# Altium footprint library Lib Marius.PcbLib: 393 footprints (part 23 of 25)
Each footprint in its own frame and in the unit in brackets; x right, y up, seen from the top. Pads: shape width x height; smd on the part's side, far side on the other; paste and mask are expansions set on the pad; w line width, h text height; cw(c..) or ccw(c..) is an arc to the next point about the centre after c.
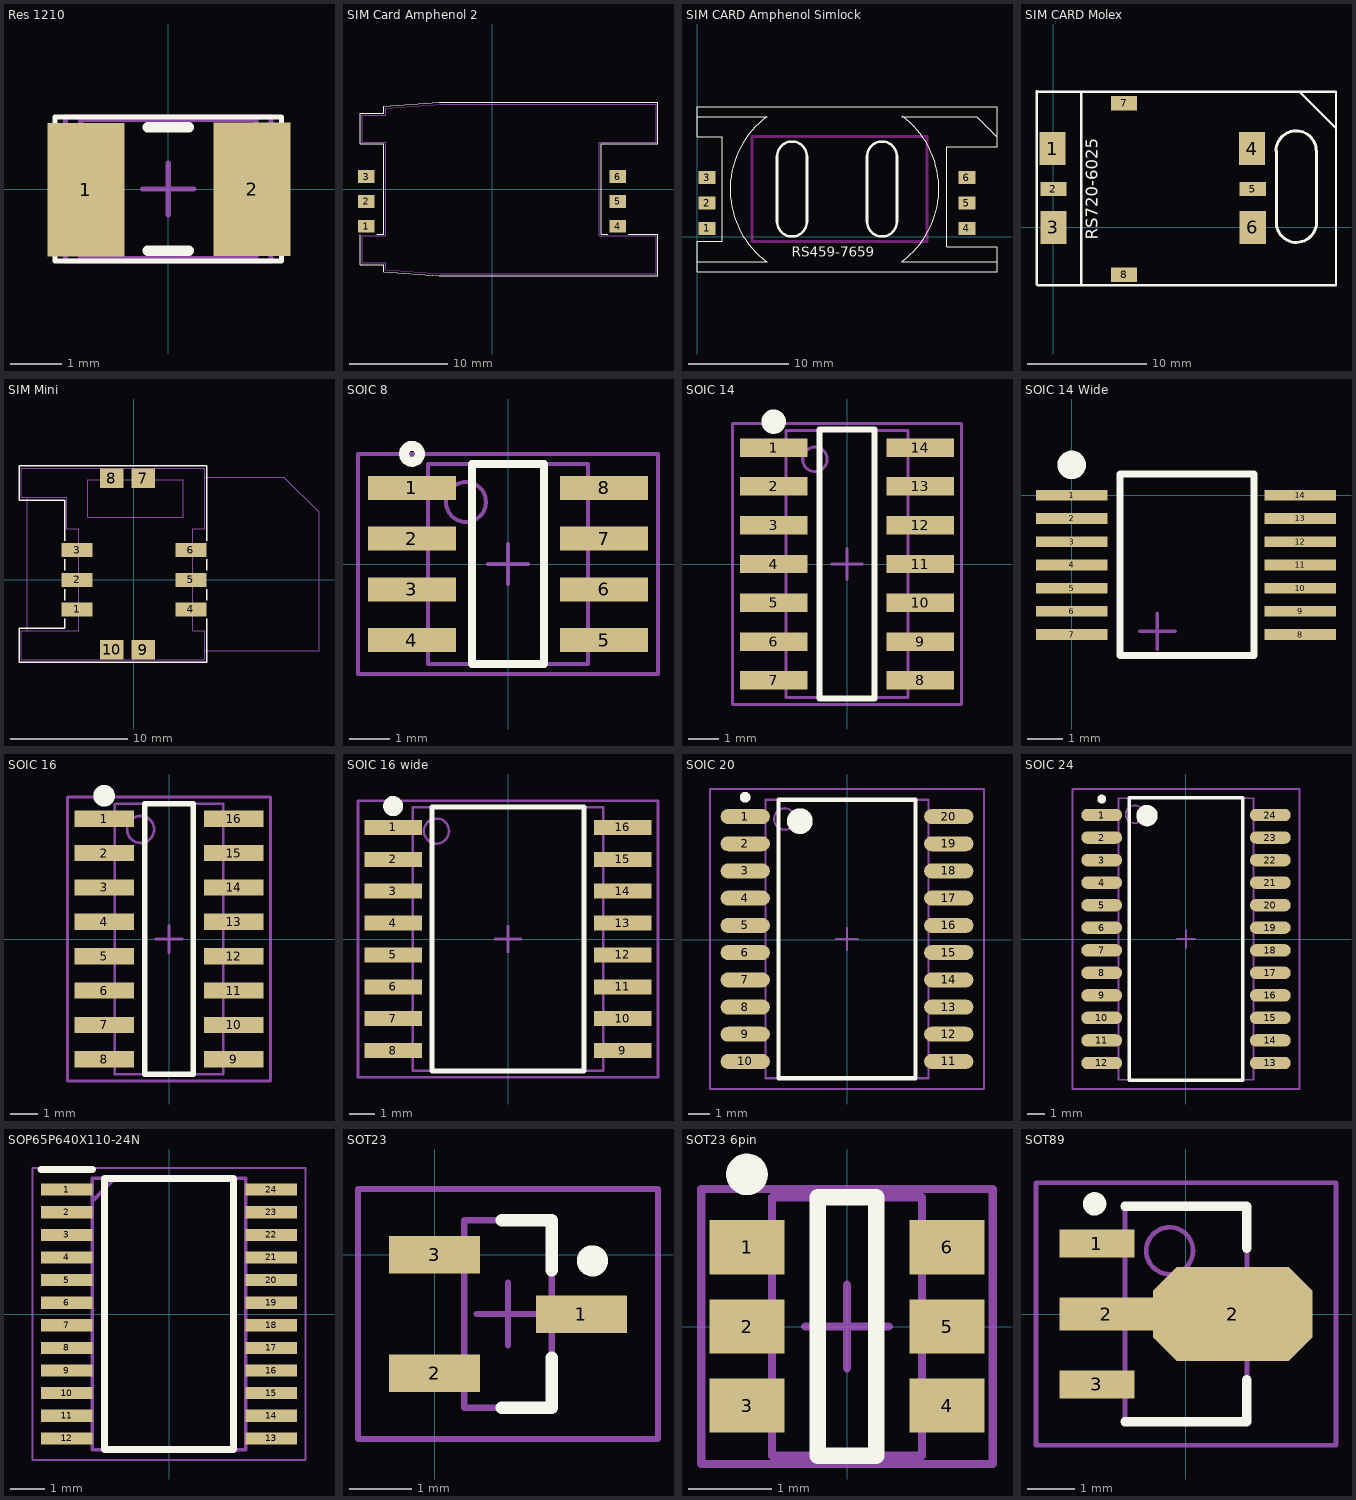
[diagram p22: the footprints below, top view; thin cyan lines are the x and y axes]

## Res 1210 [mm] "1210 Resistor 0.25W"
height 0.5
pads (2):
  rect 1.5x2.6 smd: 1(-1.601,-0.013) 2(1.63,-0.003)
Top Overlay:
  lines w0.1: -2.2,-1.4 2.2,-1.4 2.2,1.4 -2.2,1.4 -2.2,-1.4
  lines w0.2: -0.4,-1.2 0.4,-1.2 ; -0.4,1.2 0.4,1.2
Mechanical 13:
  lines w0.1: -1.7,-1.35 -1.7,1.35 1.7,1.35 1.7,-1.35 -1.7,-1.35
Mechanical 15:
  lines w0.1: -0.5,0 0.5,0 ; 0,-0.5 0,0.5 ; -2,-1.4 -2,1.4 2,1.4 2,-1.4 -2,-1.4
3D body "Res 1210.STEP": height 1.7, standoff 0, extent -2,-1.244 2,1.245

## SIM Card Amphenol 2 [mm]
pads (6):
  rect 1.7x1.3 smd mask+0: 1(-12.85,-3.81) 2(-12.85,-1.27) 3(-12.85,1.27) 4(12.85,-3.81) 5(12.85,-1.27) 6(12.85,1.27)
Top Overlay:
  lines w0.125: -13.45,-4.675 -13.45,-7.75 -11.05,-7.75 ; -11.8,-4.6 -11.05,-4.6 -11.05,4.6 -13.45,4.6 -13.45,7.75 -11.05,7.75 ; -5.4,-8.85 16.95,-8.85 16.95,-4.6 13.9,-4.6 ; -5.375,8.85 16.95,8.85 16.95,4.6 11.15,4.6 11.15,-4.6 11.8,-4.6
  lines w0.127: -11.05,-7.75 -11.05,-8.45 -5.4,-8.85 ; -11.05,7.75 -11.05,8.475 -5.375,8.85
Mechanical 13:
  lines w0.065: -13.25,-7.55 -13.25,-4.8 -10.85,-4.8 -10.85,4.8 -13.25,4.8 -13.25,7.55 -10.85,7.55 -10.85,8.25 -5.25,8.65 16.75,8.65 16.75,4.8 10.95,4.8 10.95,-4.8 16.75,-4.8 16.75,-8.65 -5.25,-8.65 -10.85,-8.25 -10.85,-7.55 -13.25,-7.55
  text ".Designator" at -4.35,-0.425 h0.87
3D body "c70710m0065002.stp": height 2.68, standoff 0, extent -13.25,-8.625 16.75,8.675

## SIM CARD Amphenol Simlock [mm] "SIM Card Connector with lock"
height 1.75
pads (6):
  rect 1.7x1.3 smd: 1(1,0.8) 2(1,3.34) 3(1,5.88) 4(27,0.8) 5(27,3.34) 6(27,5.88)
Top Overlay:
  lines w0.1: 0,-2.5 7,-2.5 ; 0,12 7,12 ccw(c12.359,4.715) 6.966,-2.545 ; 20.5,-2.5 30,-2.5 ; 20.5,-2.5 ccw(c15.141,4.785) 20.534,12.045 ; 20.5,12 28,12 30,10 ; 30,10 30,10 ; 0,-3.5 30,-3.5 30,-1 25,-1 25,9 30,9 30,13 0,13 0,10 2.5,10 2.5,-0.5 0,-0.5 0,-3.5
  lines w0.254: 8,1.5 ccw(c9.5,1.5) 11,1.5 11,8 ccw(c9.5,8) 8,8 8,1.5 ; 17,1.5 ccw(c18.5,1.5) 20,1.5 20,8 ccw(c18.5,8) 17,8 17,1.5
  text "RS459-7659" at 9.5,-2 h1
Keep-Out Layer:
  lines w0.254: 5.5,-0.5 23,-0.5 23,10 5.5,10 5.5,8 5.5,-0.5
3D body: height 2, standoff 0, extent 0,-3.5 30,13

## SIM CARD Molex [mm] "SIM Card Connector"
height 1.75
pads (8):
  rect 2.2x2.8 smd: 1(-0.06,6.648) 3(0,0) 4(16.74,6.648) 6(16.8,0)
  rect 2.2x1.2 smd: 2(0,3.24) 5(16.8,3.24) 7(5.96,10.46) 8(5.96,-3.98)
Top Overlay:
  lines w0.2: 2.352,-4.815 2.352,11.389 ; 19.958,11.414 20.477,11.414 20.763,11.414 23.775,8.402 ; -1.411,-4.784 -1.411,11.47 -1.369,11.427 23.811,11.427 23.811,-4.868 -1.327,-4.868 -1.411,-4.784
  lines w0.254: 18.762,6.455 cw(c20.451,6.455) 22.139,6.506 ; 18.789,6.428 18.789,0.379 ccw(c20.477,0.43) 22.166,0.43 22.166,6.479
  text "RS720-6025" at 3.754,-1.05 h1

## SIM Mini [mm] "Small SIM connector without locking"
pads (10):
  rect 2.65x1.2 smd mask+0: 1(-4.875,-2.54) 2(-4.875,0) 3(-4.875,2.54) 4(4.875,-2.54) 5(4.875,0) 6(4.875,2.54)
  rect 2x1.7 smd mask+0: 7(0.8,8.7) 8(-1.9,8.7) 9(0.8,-6) 10(-1.9,-6)
Top Overlay:
  lines w0.125: -5.95,-4.15 -9.85,-4.15 -9.85,-7.05 6.25,-7.05 ; -5.95,6.8 -9.825,6.8 -9.825,9.75 6.25,9.75
  lines w0.127: -5.95,-4.15 -5.95,-3.325 ; -5.95,-1.75 -5.95,-0.8 ; -5.95,0.8 -5.95,1.775 ; -5.95,3.35 -5.95,6.8 ; 6.25,-7.05 6.25,-3.325 ; 6.25,-1.75 6.25,-0.8 ; 6.25,0.8 6.25,1.75 ; 6.25,3.325 6.25,9.75
Mechanical 13:
  lines w0.065: -9.15,-4.35 -9.15,7.05 ; 6.05,-6.1 15.85,-6.1 15.85,5.8 12.85,8.8 6.05,8.8 ; -9.65,-6.85 -9.65,-4.35 -4.75,-4.35 -4.75,4.35 -5.75,4.35 -5.75,7.05 -9.65,7.05 -9.65,9.55 6.05,9.55 6.05,4.355 5.05,4.355 5.05,-4.35 6.05,-4.35 6.05,-6.85 -9.65,-6.85 ; -3.965,5.36 -3.965,8.555 4.235,8.555 4.235,5.36 -3.965,5.36
  text ".Designator" at 0.275,-4.325 h0.87
3D body "c70710m0060972.stp": height 2.9, standoff 0, extent -9.65,-6.825 6.05,9.575

## SOIC 8 [mm] "SOIC, 8-Leads, Body 5.0x4.0mm (max), Pitch 1.27mm, IPC Medium Density"
height 1.75
pads (8):
  rect 2.2x0.6 smd: 1(-2.4,1.905) 2(-2.4,0.635) 3(-2.4,-0.635) 4(-2.4,-1.905) 5(2.4,-1.905) 6(2.4,-0.635) 7(2.4,0.635) 8(2.4,1.905)
Top Overlay:
  circle w0.25: c-2.4,2.755 r0.2
  lines w0.2: -0.9,-2.5 -0.9,2.5 0.9,2.5 0.9,-2.5 -0.9,-2.5
Mechanical 13:
  circle w0.1: c-1.05,1.55 r0.5
  lines w0.1: -2,-2.5 -2,2.5 2,2.5 2,-2.5 -2,-2.5
Mechanical 15:
  lines w0.1: -0.5,0 0.5,0 ; 0,-0.5 0,0.5 ; -3.75,-2.75 -3.75,2.75 3.75,2.75 3.75,-2.75 -3.75,-2.75
3D body "SW3dPS-SOIC08-150.STEP": height 1.75, standoff 0, extent -2.9,-2.4 2.9,2.4

## SOIC 14 [mm] "SOIC, 14-Leads, Body 8.8x4.0mm (max), Pitch 1.27mm, IPC Medium Density"
height 1.75
pads (14):
  rect 2.2x0.6 smd: 1(-2.4,3.81) 2(-2.4,2.54) 3(-2.4,1.27) 4(-2.4,0) 5(-2.4,-1.27) 6(-2.4,-2.54) 7(-2.4,-3.81) 8(2.4,-3.81) 9(2.4,-2.54) 10(2.4,-1.27) 11(2.4,0) 12(2.4,1.27) 13(2.4,2.54) 14(2.4,3.81)
Top Overlay:
  circle w0.4: c-2.4,4.66 r0.2
  lines w0.2: -0.9,-4.4 0.9,-4.4 0.9,4.4 -0.9,4.4 -0.9,-4.4
Mechanical 13:
  circle w0.1: c-1.05,3.425 r0.4
  lines w0.1: -2,-4.375 2,-4.375 2,4.375 -2,4.375 -2,-4.375
Mechanical 15:
  lines w0.1: -0.5,0 0.5,0 ; 0,-0.5 0,0.5 ; -3.75,-4.6 3.75,-4.6 3.75,4.6 -3.75,4.6 -3.75,-4.6
3D body "SW3dPS-SOIC14-150.STEP": height 1.75, standoff 0, extent -2.9,-4.275 2.9,4.275

## SOIC 14 Wide [mm] "SOIC, 14-Leads, Body 5 x 4.4mm (max), Pitch 0.65mm"
height 1.75
pads (14):
  rect 2x0.3 smd: 1(0,0) 2(0,-0.65) 3(0,-1.3) 4(0,-1.95) 5(0,-2.6) 6(0,-3.25) 7(0,-3.9) 8(6.4,-3.9) 9(6.4,-3.25) 10(6.4,-2.6) 11(6.4,-1.95) 12(6.4,-1.3) 13(6.4,-0.65) 14(6.4,0)
Top Overlay:
  circle w0.4: c0,0.85 r0.2
  lines w0.2: 1.351,-4.485 1.351,0.59 5.103,0.59 5.103,-4.485 1.351,-4.485
Mechanical 15:
  lines w0.1: 1.9,-3.81 2.9,-3.81 ; 2.4,-4.31 2.4,-3.31

## SOIC 16 [mm] "SOIC, 16-Leads, Body 10.0x4.0mm (max), Pitch 1.27mm, IPC Medium Density"
height 1.75
pads (16):
  rect 2.2x0.6 smd: 1(-2.4,4.445) 2(-2.4,3.175) 3(-2.4,1.905) 4(-2.4,0.635) 5(-2.4,-0.635) 6(-2.4,-1.905) 7(-2.4,-3.175) 8(-2.4,-4.445) 9(2.4,-4.445) 10(2.4,-3.175) 11(2.4,-1.905) 12(2.4,-0.635) 13(2.4,0.635) 14(2.4,1.905) 15(2.4,3.175) 16(2.4,4.445)
Top Overlay:
  circle w0.4: c-2.4,5.295 r0.2
  lines w0.2: -0.9,-5 -0.9,5 0.9,5 0.9,-5 -0.9,-5
Mechanical 13:
  circle w0.1: c-1.05,4.05 r0.5
  lines w0.1: -2,-5 -2,5 2,5 2,-5 -2,-5
Mechanical 15:
  lines w0.1: -0.5,0 0.5,0 ; 0,-0.5 0,0.5 ; -3.75,-5.25 -3.75,5.25 3.75,5.25 3.75,-5.25 -3.75,-5.25
3D body "SW3dPS-SOIC16-150.STEP": height 1.75, standoff 0, extent -2.9,-4.9 2.9,4.9

## SOIC 16 wide [mm] "SOIC, 16-Leads, Body 10.5x7.6mm (max), Pitch 1.27mm, IPC Medium Density"
height 2.65
pads (16):
  rect 2.3x0.6 smd: 1(-4.575,4.445) 2(-4.575,3.175) 3(-4.575,1.905) 4(-4.575,0.635) 5(-4.575,-0.635) 6(-4.575,-1.905) 7(-4.575,-3.175) 8(-4.575,-4.445) 9(4.575,-4.445) 10(4.575,-3.175) 11(4.575,-1.905) 12(4.575,-0.635) 13(4.575,0.635) 14(4.575,1.905) 15(4.575,3.175) 16(4.575,4.445)
Top Overlay:
  circle w0.4: c-4.575,5.295 r0.2
  lines w0.2: -3.025,-5.25 3.025,-5.25 3.025,5.25 -3.025,5.25 -3.025,-5.25
Mechanical 13:
  circle w0.1: c-2.85,4.3 r0.5
  lines w0.1: -3.8,-5.25 3.8,-5.25 3.8,5.25 -3.8,5.25 -3.8,-5.25
Mechanical 15:
  lines w0.1: -0.5,0 0.5,0 ; 0,-0.5 0,0.5 ; -5.975,-5.5 5.975,-5.5 5.975,5.5 -5.975,5.5 -5.975,-5.5
3D body "SOIC16-300.STEP": height 2.65, standoff 0, extent -5.15,-5.15 5.15,5.15

## SOIC 20 [mm] "SOIC, 20-Leads, Body 12.8x7.5mm, Pitch 1.27mm, IPC Low Density"
height 2.65
pads (20):
  oval 2.3x0.7 smd: 1(-4.751,5.746) 2(-4.751,4.476) 3(-4.751,3.206) 4(-4.751,1.936) 5(-4.751,0.666) 6(-4.751,-0.604) 7(-4.751,-1.874) 8(-4.751,-3.144) 9(-4.751,-4.414) 10(-4.751,-5.684) 11(4.749,-5.684) 12(4.749,-4.414) 13(4.749,-3.144) 14(4.749,-1.874) 15(4.749,-0.604) 16(4.749,0.666) 17(4.749,1.936) 18(4.749,3.206) 19(4.749,4.476) 20(4.749,5.746)
Top Overlay:
  circle w0.25: c-4.751,6.646 r0.125
  circle w0.6: c-2.201,5.531 r0.3
  lines w0.2: -3.201,-6.469 -3.201,6.531 3.199,6.531 3.199,-6.469 -3.201,-6.469
Mechanical 13:
  circle w0.1: c-2.901,5.631 r0.5
  lines w0.1: -3.801,-6.469 -3.801,6.531 3.799,6.531 3.799,-6.469 -3.801,-6.469
Mechanical 15:
  lines w0.1: -0.501,0.031 0.499,0.031 ; -0.001,-0.469 -0.001,0.531 ; -6.401,-6.969 -6.401,7.031 6.399,7.031 6.399,-6.969 -6.401,-6.969
3D body: height 2.65, standoff 0, extent -3.801,-6.469 3.799,6.531

## SOIC 24 [mm] "SOIC, 24-Leads, Body 15.4x7.5mm, Pitch 1.27mm, IPC Low Density"
height 2.65
pads (24):
  oval 2.3x0.7 smd: 1(-4.75,6.985) 2(-4.75,5.715) 3(-4.75,4.445) 4(-4.75,3.175) 5(-4.75,1.905) 6(-4.75,0.635) 7(-4.75,-0.635) 8(-4.75,-1.905) 9(-4.75,-3.175) 10(-4.75,-4.445) 11(-4.75,-5.715) 12(-4.75,-6.985) 13(4.75,-6.985) 14(4.75,-5.715) 15(4.75,-4.445) 16(4.75,-3.175) 17(4.75,-1.905) 18(4.75,-0.635) 19(4.75,0.635) 20(4.75,1.905) 21(4.75,3.175) 22(4.75,4.445) 23(4.75,5.715) 24(4.75,6.985)
Top Overlay:
  circle w0.25: c-4.75,7.885 r0.125
  circle w0.6: c-2.2,6.95 r0.3
  lines w0.2: -3.2,-7.95 -3.2,7.95 3.2,7.95 3.2,-7.95 -3.2,-7.95
Mechanical 13:
  circle w0.1: c-2.9,7.025 r0.5
  lines w0.1: -3.8,-7.925 -3.8,7.925 3.8,7.925 3.8,-7.925 -3.8,-7.925
Mechanical 15:
  lines w0.1: -0.5,0 0.5,0 ; 0,-0.5 0,0.5 ; -6.4,-8.45 -6.4,8.45 6.4,8.45 6.4,-8.45 -6.4,-8.45
3D body: height 2.65, standoff 0, extent -3.8,-7.925 3.8,7.925

## SOP65P640X110-24N [mm]
pads (24):
  rect 1.475x0.35 smd: 1(-2.938,3.575) 2(-2.938,2.925) 3(-2.938,2.275) 4(-2.938,1.625) 5(-2.938,0.975) 6(-2.938,0.325) 7(-2.938,-0.325) 8(-2.938,-0.975) 9(-2.938,-1.625) 10(-2.938,-2.275) 11(-2.938,-2.925) 12(-2.938,-3.575) 13(2.938,-3.575) 14(2.938,-2.925) 15(2.938,-2.275) 16(2.938,-1.625) 17(2.938,-0.975) 18(2.938,-0.325) 19(2.938,0.325) 20(2.938,0.975) 21(2.938,1.625) 22(2.938,2.275) 23(2.938,2.925) 24(2.938,3.575)
Top Overlay:
  lines w0.2: -3.675,4.15 -2.2,4.15 ; -1.85,-3.9 1.85,-3.9 1.85,3.9 -1.85,3.9 -1.85,-3.9
Mechanical 13:
  lines w0.1: -2.2,3.25 -1.55,3.9 ; -2.2,-3.9 2.2,-3.9 2.2,3.9 -2.2,3.9 -2.2,-3.9
Mechanical 15:
  lines w0.05: -3.925,-4.2 3.925,-4.2 3.925,4.2 -3.925,4.2 -3.925,-4.2
3D body "PCA9555PW,112.stp": height 1.1, standoff 0, extent -3.2,-3.9 3.2,3.9

## SOT23 [mm] "SOT23, 3-Leads, Body 2.9x1.3mm, Pitch 0.95mm, Lead Span 2.3mm - Reverse Pinning, IPC Low Density"
height 1.1
pads (3):
  rect 1.45x0.6 smd: 1(2.35,-0.95) 2(0,-1.9) 3(0,0)
Top Overlay:
  circle w0.25: c2.525,-0.1 r0.125
  lines w0.2: 1.075,-2.45 1.875,-2.45 1.875,-1.65 ; 1.075,0.55 1.875,0.55 1.875,-0.25
Mechanical 13:
  lines w0.1: 0.475,-2.45 1.875,-2.45 1.875,0.55 0.475,0.55 0.475,-2.45
Mechanical 15:
  lines w0.1: 0.675,-0.95 1.675,-0.95 ; 1.175,-1.45 1.175,-0.45 ; -1.225,-2.95 3.575,-2.95 3.575,1.05 -1.225,1.05 -1.225,-2.95
3D body: height 1.1, standoff 0, extent 0.475,-2.45 1.875,0.55

## SOT23 6pin [mm] "SOT23, 6-Leads, Body 2.9x1.6mm, Pitch 0.95mm, Lead Span 2.7mm, IPC High Density"
height 1.45
pads (6):
  rect 0.9x0.65 smd: 1(-1.2,0.95) 2(-1.2,0) 3(-1.2,-0.95) 4(1.2,-0.95) 5(1.2,0) 6(1.2,0.95)
Top Overlay:
  circle w0.25: c-1.2,1.825 r0.125
  lines w0.2: -0.35,-1.55 -0.35,1.55 0.35,1.55 0.35,-1.55 -0.35,-1.55
Mechanical 13:
  lines w0.1: -0.9,-1.55 0.9,-1.55 0.9,1.55 -0.9,1.55 -0.9,-1.55
Mechanical 15:
  lines w0.1: -0.5,0 0.5,0 ; 0,-0.5 0,0.5 ; -1.75,-1.65 1.75,-1.65 1.75,1.65 -1.75,1.65 -1.75,-1.65
3D body: height 1.45, standoff 0, extent -0.9,-1.55 0.9,1.55

## SOT89 [mm] "SOT89, 3-Leads, Body 4.5x2.4 mm, Pitch 1.5mm, Lead Span 4.1mm, IPC Low Density"
height 1.6
pads (4):
  rect 1.6x0.6 smd: 1(-1.9,1.5) 3(-1.9,-1.5)
  rect 2x0.7 smd: 2(-1.7,0)
  oct 3.4x2 smd: 2(1,0)
Top Overlay:
  circle w0.25: c-1.95,2.35 r0.125
  lines w0.2: -1.3,-2.3 1.3,-2.3 1.3,-1.4 ; -1.3,2.3 1.3,2.3 1.3,1.4
Mechanical 13:
  circle w0.1: c-0.35,1.35 r0.5
  lines w0.1: -1.3,-2.3 1.3,-2.3 1.3,2.3 -1.3,2.3 -1.3,-2.3
Mechanical 15:
  lines w0.1: -0.5,0 0.5,0 ; 0,-0.5 0,0.5 ; -3.2,-2.8 3.2,-2.8 3.2,2.8 -3.2,2.8 -3.2,-2.8
3D body: height 1.6, standoff 0, extent -1.3,-2.3 1.3,2.3